# Altium footprint library D2PAK.PcbLib: 1 footprints
Each footprint in its own frame and in the unit in brackets; x right, y up, seen from the top. Pads: shape width x height; smd on the part's side, far side on the other; paste and mask are expansions set on the pad; w line width, h text height; cw(c..) or ccw(c..) is an arc to the next point about the centre after c.
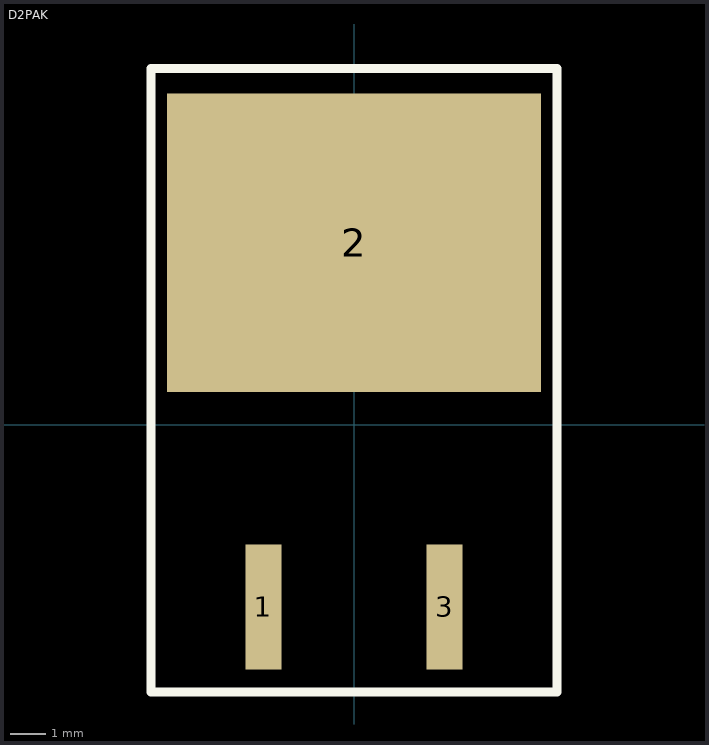
[diagram p0: the footprint, top view; thin cyan lines are the x and y axes]

## D2PAK [mil]
pads (3):
  rect 40x137.95 smd: 1(-100,-201.04) 3(100,-201.04)
  rect 412.99x329.92 smd: 2(0,201.04)
Top Overlay:
  lines w10: -224.41,-295.28 -224.41,393.7 224.41,393.7 224.41,-295.28 -224.41,-295.28
3D body "D2PAK3_ONS.step": height 190.12, standoff -2.01, extent -196.49,-185.98 196.5,340.12